# Altium schematic symbol library TC2050-IDC-09Mar2012.SchLib: 1 symbol
Pins are listed as number, name and electrical type; pins without a type are passive.

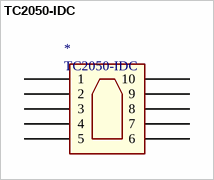
[diagram p0: symbol TC2050-IDC]

## TC2050-IDC
designator *
footprint TC2050-IDC (Footprint not found)
pins: 1, 2, 3, 4, 5, 6, 7, 8, 9, 10